# Altium footprint library BORNERA2_3.5MM.PcbLib: 1 footprints
Each footprint in its own frame and in the unit in brackets; x right, y up, seen from the top. Pads: shape width x height; smd on the part's side, far side on the other; paste and mask are expansions set on the pad; w line width, h text height; cw(c..) or ccw(c..) is an arc to the next point about the centre after c.
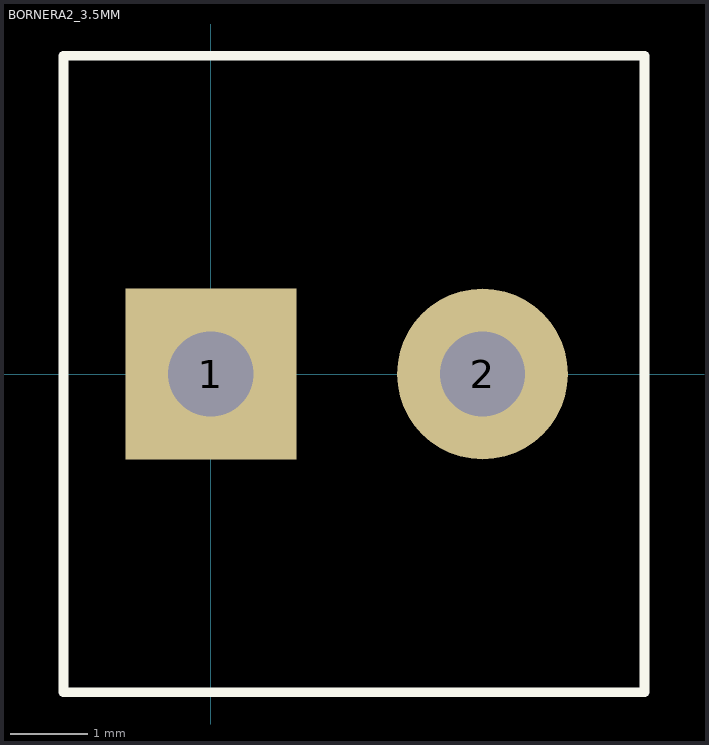
[diagram p0: the footprint, top view; thin cyan lines are the x and y axes]

## BORNERA2_3.5MM [mm] "18 Position Wire to Board Terminal Block Horizontal with Board 0.138\" (3.50mm) Through Hole"
pads (2):
  rect 2.2x2.2 hole 1.1: 1(0,0)
  round 2.2 hole 1.1: 2(3.5,0)
Top Overlay:
  lines w0.127: -1.9,-4.1 5.588,-4.1 5.588,4.1 -1.9,4.1 -1.9,-4.1
3D body: height 8.5, standoff -3.5, extent -1.905,-3.65 5.595,3.65